# Altium schematic symbol library SSR.SchLib: 7 symbols
Pins are listed as number, name and electrical type; pins without a type are passive.

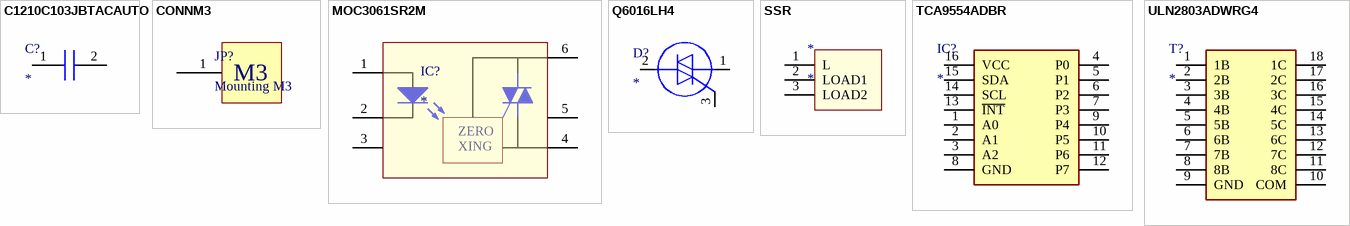
[diagram p0: symbols C1210C103JBTACAUTO to ULN2803ADWRG4]

## C1210C103JBTACAUTO
designator C?
Capacitor; Manufacturer_Name: Kemet; Manufacturer_Part_Number: C1210C103JBTACAUTO; Datasheet Link: https://www.kemet.com/specsheet/C1210C103JBTACAUTO; Height: 1.4mm; Mouser Part Number: 80-C1210C103JBTAUTO; Mouser Price/Stock: https://www.mouser.co.uk/ProductDetail/KEMET/C1210C103JBTACAUTO?qs=QNEnbhJQKvaXscHrCOz9wA%3D%3D
footprint CAPC3225X140N
pins: 1, 2

## CONNM3
designator JP?, comment Mounting M3
footprint M3
pins: 1
text: M3

## MOC3061SR2M
designator IC?
Integrated Circuit; Manufacturer_Name: ON Semiconductor; Manufacturer_Part_Number: MOC3061SR2M; Datasheet Link: http://www.onsemi.com/pub/Collateral/MOC3163M-D.pdf; Height: 5.08mm; Mouser Part Number: 512-MOC3061SR2M; Mouser Price/Stock: https://www.mouser.co.uk/ProductDetail/ON-Semiconductor-Fairchild/MOC3061SR2M?qs=QsyUFYHC2%2FbVF%2F%252BX5tJ1cA%3D%3D; Arrow Part Number: MOC3061SR2M; Arrow Price/Stock: https://www.arrow.com/en/products/moc3061sr2m/on-semiconductor?region=nac
footprint SOT254P916X508-6N
pins: 1 ANODE, 2 K, 3 N/C, 4 MAIN_TERM._1, 5 NC, 6 MAIN_TERM._2
text: ZERO; XING

## Q6016LH4
designator D?
Thyristor; Manufacturer_Name: LITTELFUSE; Manufacturer_Part_Number: Q6016LH4; Datasheet Link: https://www.littelfuse.com/~/media/electronics/datasheets/switching_thyristors/littelfuse_thyristor_qxx15xx_qxx16xhx_datasheet.pdf.pdf; Height: 4.78mm
footprint TO254P478X1016X1956-3P
pins: 1 MT1, 2 MT2, 3 G

## SSR
designator *
pins: 1 L, 2 LOAD1, 3 LOAD2

## TCA9554ADBR
designator IC?
Integrated Circuit; Manufacturer_Name: Texas Instruments; Manufacturer_Part_Number: TCA9554ADBR; Datasheet Link: http://www.ti.com/lit/gpn/tca9554a; Height: 2mm; Mouser Part Number: 595-TCA9554ADBR; Mouser Price/Stock: https://www.mouser.co.uk/ProductDetail/Texas-Instruments/TCA9554ADBR/?qs=UPLqB4C8V4HovI3jZdcnbg%3D%3D; Arrow Part Number: TCA9554ADBR; Arrow Price/Stock: https://www.arrow.com/en/products/tca9554adbr/texas-instruments
footprint SOP65P780X200-16N
pins: 1 A0, 2 A1, 3 A2, 4 P0, 5 P1, 6 P2, 7 P3, 8 GND, 9 P4, 10 P5, 11 P6, 12 P7, 13 ~{INT}, 14 SCL, 15 SDA, 16 VCC

## ULN2803ADWRG4
designator T?
Transformer; Manufacturer_Name: Texas Instruments; Manufacturer_Part_Number: ULN2803ADWRG4; Description: Darlington Transistors TRANSISTOR ARRAYS; Datasheet Link: http://www.ti.com/lit/ds/symlink/uln2803a.pdf; Height: 2.65mm; Mouser Part Number: 595-ULN2803ADWRG4; Mouser Price/Stock: https://www.mouser.co.uk/ProductDetail/Texas-Instruments/ULN2803ADWRG4?qs=pbofycSusePr3zMQZfJ%2FRA%3D%3D; Arrow Part Number: ULN2803ADWRG4; Arrow Price/Stock: https://www.arrow.com/en/products/uln2803adwrg4/texas-instruments
footprint SOIC127P1030X265-18N
pins: 1 1B, 2 2B, 3 3B, 4 4B, 5 5B, 6 6B, 7 7B, 8 8B, 9 GND, 10 COM, 11 8C, 12 7C, 13 6C, 14 5C, 15 4C, 16 3C, 17 2C, 18 1C